# Altium footprint library L298N.PcbLib: 1 footprints
Each footprint in its own frame and in the unit in brackets; x right, y up, seen from the top. Pads: shape width x height; smd on the part's side, far side on the other; paste and mask are expansions set on the pad; w line width, h text height; cw(c..) or ccw(c..) is an arc to the next point about the centre after c.
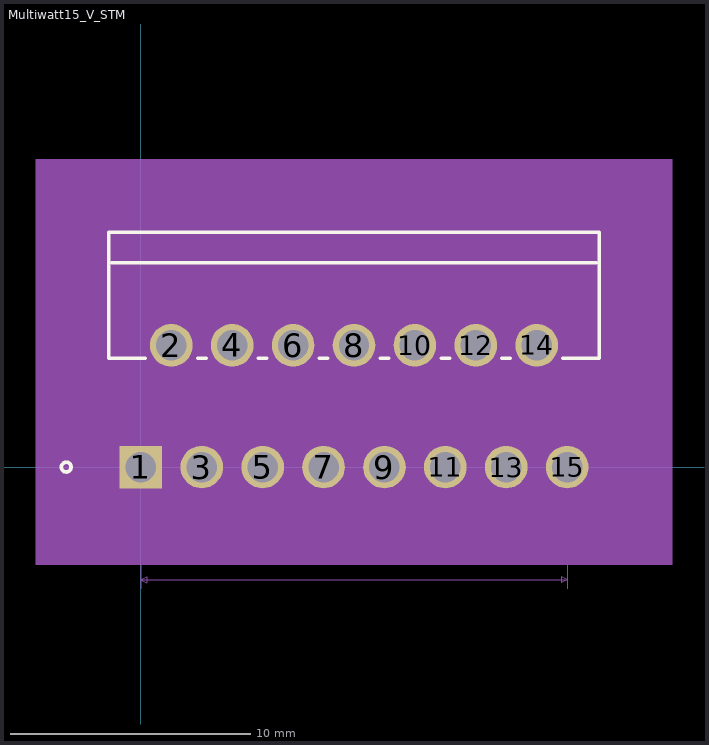
[diagram p0: the footprint, top view; thin cyan lines are the x and y axes]

## Multiwatt15_V_STM [mil]
pads (15):
  rect 70x70 hole 50 mask+0: 1(0,0)
  round 70 hole 50 mask+0: 2(50,200) 3(100,0) 4(150,200) 5(200,0) 6(250,200) 7(300,0) 8(350,200) 9(400,0) 10(450,200) 11(500,0) 12(550,200) 13(600,0) 14(650,200) 15(700,0)
Top Overlay:
  circle w6: c-122.5,0 r8
  lines w6: -47.5,335.71 747.5,335.71 ; 6.87,178.71 -52.5,178.71 -52.5,385.71 752.5,385.71 752.5,178.71 693.13,178.71 ; 93.13,178.71 106.87,178.71 ; 193.13,178.71 206.87,178.71 ; 293.13,178.71 306.87,178.71 ; 393.13,178.71 406.87,178.71 ; 493.13,178.71 506.87,178.71 ; 593.13,178.71 606.87,178.71
Mechanical 5:
  region: -172.5,505.71 872.5,505.71 872.5,-160 -172.5,-160
Mechanical 7:
  lines w1: -112.5,183.71 -47.5,183.71 ; -112.5,380.71 -47.5,380.71 -47.5,445.71 ; -50,-85 0,-85 ; 0,-200 0,0 0,-100 ; 50,-100 50,200 ; 100,-85 50,-85 ; 700,-200 700,0 812.5,0 ; 700,380.71 812.5,380.71 ; 747.5,380.71 747.5,445.71 ; -97.5,183.71 -97.5,380.71 ; -97.5,183.71 -102.5,193.71 -92.5,193.71 -97.5,183.71 ; -97.5,380.71 -102.5,370.71 -92.5,370.71 -97.5,380.71 ; -47.5,430.71 747.5,430.71 ; -47.5,430.71 -37.5,435.71 -37.5,425.71 -47.5,430.71 ; 0,-185 700,-185 ; 0,-185 10,-180 10,-190 0,-185 ; 0,-85 -10,-80 -10,-90 0,-85 ; 50,-85 60,-80 60,-90 50,-85 ; 700,-185 690,-180 690,-190 700,-185 ; 747.5,430.71 737.5,435.71 737.5,425.71 747.5,430.71 ; 797.5,0 797.5,200 ; 797.5,0 792.5,10 802.5,10 797.5,0 ; 797.5,200 797.5,380.71 ; 797.5,200 792.5,210 802.5,210 797.5,200 ; 797.5,200 792.5,190 802.5,190 797.5,200 ; 797.5,380.71 792.5,370.71 802.5,370.71 797.5,380.71 ; 650,200 812.5,200 650,200
  text "Default Padstyle: OX70Y70D50P" at -12.5,-335 h50
  text "Pin 1 Padstyle: SX70Y70D50P" at 12.5,-395 h50
  text "Alt 1 Padstyle: OX60Y90D30P" at 12.5,-455 h50
  text "Alt 2 Padstyle: OX90Y60D30P" at 12.5,-515 h50
  text "0.7in/17.78mm" at 268.75,-230 h25
  text "0.05in/1.27mm" at -56.25,-130 h25
  text "0.181in/4.59mm" at 817.5,277.86 h25
  text "0.2in/5.08mm" at 817.5,87.5 h25
  text "0.795in/20.193mm" at 250,450.71 h25
  text "0.197in/5.004mm" at -305,269.71 h25
Mechanical 13:
  circle w0: c-37.5,193.71 r8
  lines w1: -47.5,330.71 747.5,330.71 ; -47.5,183.71 747.5,183.71 747.5,380.71 -47.5,380.71 -47.5,183.71
  text "TAB" at 331.25,343.21 h25
Mechanical 15:
  region: 757.5,390.71 -57.5,390.71 -57.5,-45 757.5,-45
  lines w6: -57.5,-45 -57.5,390.71 757.5,390.71 757.5,-45 -57.5,-45
3D body: height 10, standoff 0, extent 0,0 10,10